# Altium integrated library Micron Memory Parallel NOR Flash.IntLib: 720 symbols (part 149 of 216)
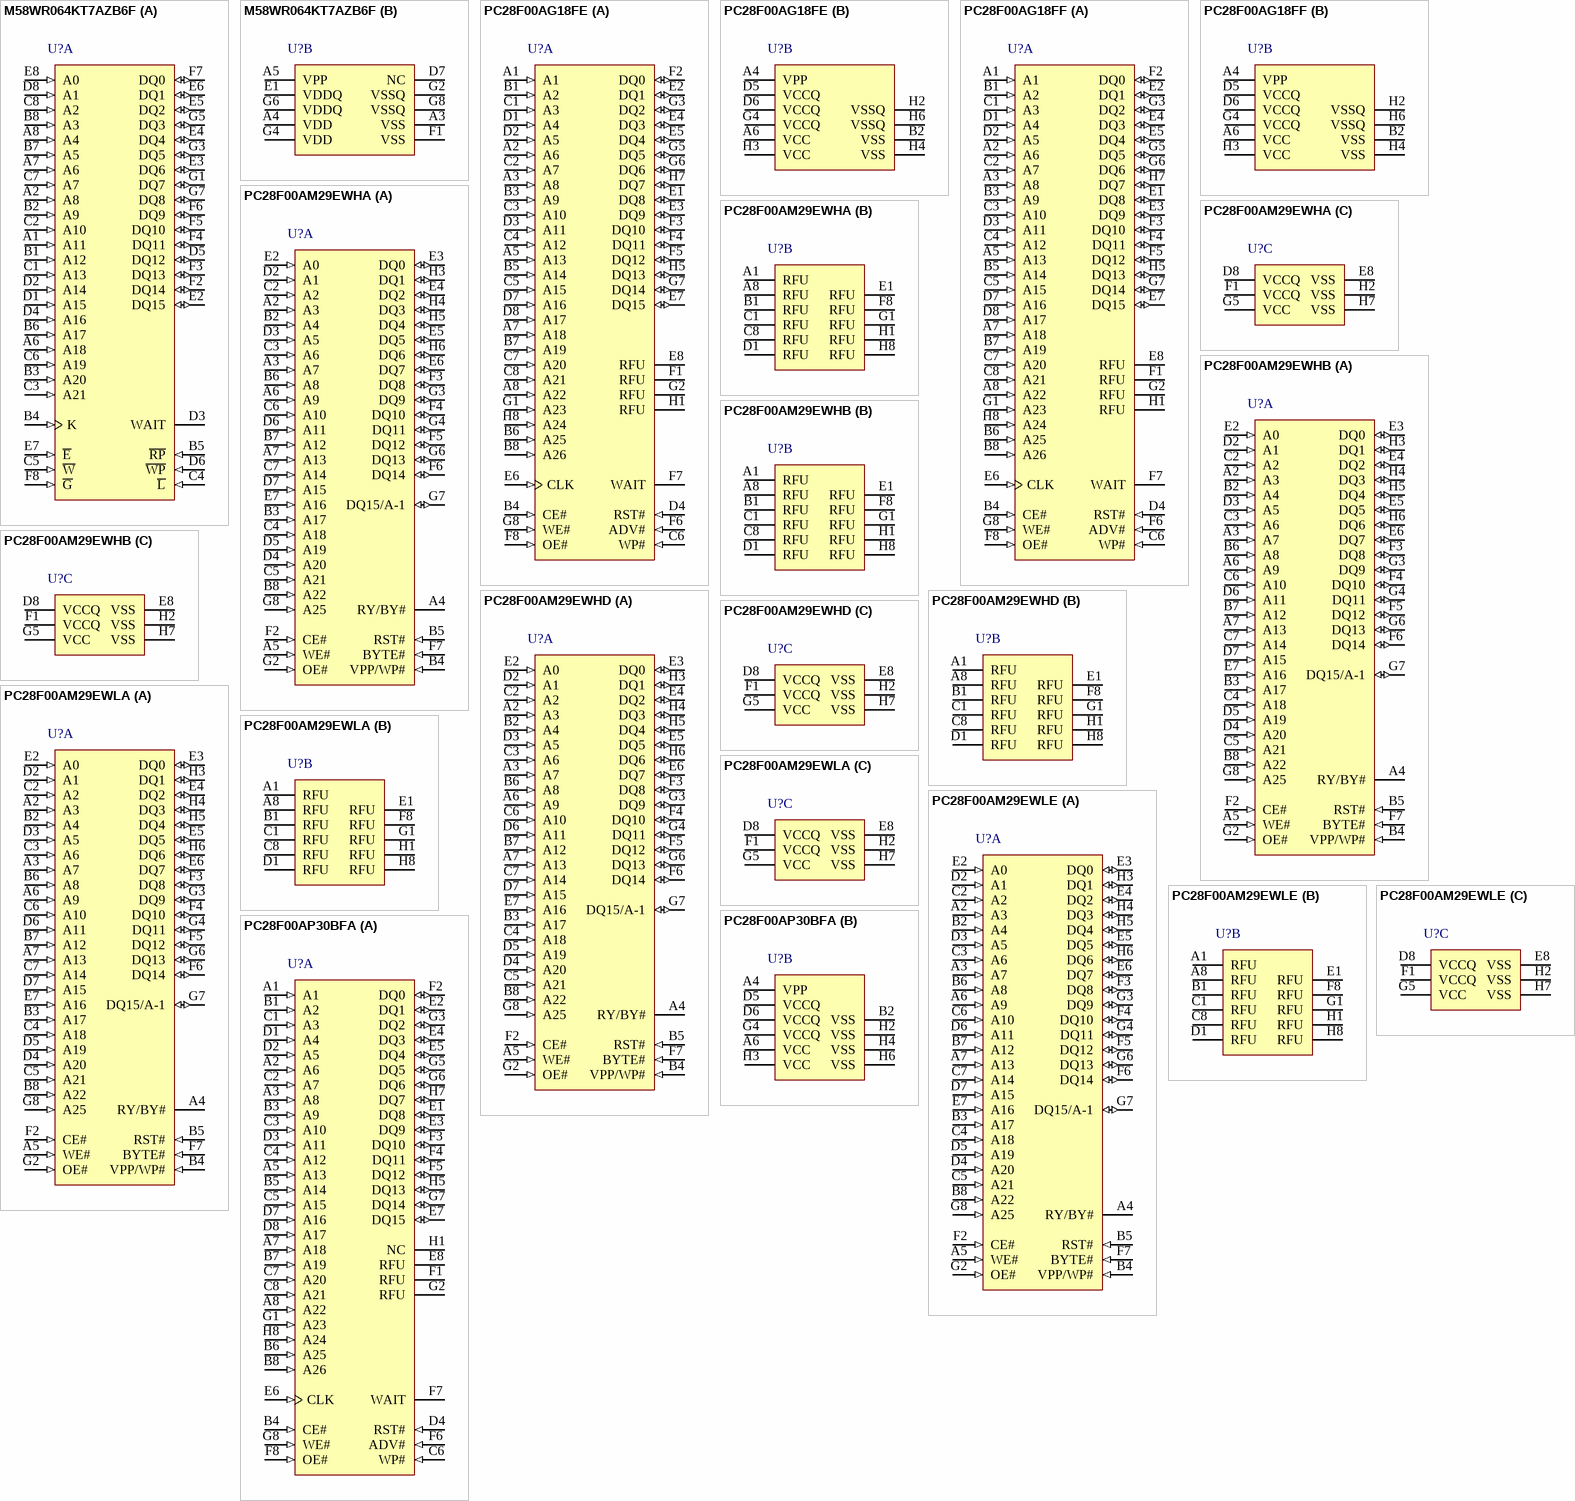
[diagram p185: symbols M58WR064KT7AZB6F to PC28F00AP30BFA]

## M58WR064KT7AZB6F
designator U?
64 Mb (x16) Automotive Parallel NOR Flash Memory, 70 ns, 1.7 to 2.0 V, 56-ball VFBGA (ZB), Tape & Reel; Part Family: M58WR; Manufacturer: Micron; PartNumber: M58WR064KT7AZB6F; Density: 64Mb; Op Temp: -40C to +85C; Speed: 70ns; Voltage: 1.7V-2.0V; DatasheetVersion: Rev. 6; PackageVersion: Rev 18; PackageReference: MICT-ZA-80; PackageDescription: 80-Ball LBGA, 12 X 10 mm, Pitch 1 mm; RoHS: Yes; Width: x16; Mounting Technology: Surface Mount; ComponentLink1Description: Manufacturer URL; ComponentLink1URL: http://www.micron.com/; ComponentLink2Description: Datasheet; ComponentLink2URL: http://www.micron.com/~/media/Documents/Products/Data%20Sheet/NOR%20Flash/Parallel/P30/306666_P30_130nm_Discrete_DS.pdf; ComponentLink3Description: Package Specification; ComponentLink3URL: http://www.micron.com/~/media/Documents/Products/Data%20Sheet/NOR%20Flash/Parallel/P30/306666_P30_130nm_Discrete_DS.pdf
footprint MICT-ZA-80 (BGA, 80-Balls, Body 12x10mm, Pitch 1mm)
part A pins: A1 A11 (in) "Address Input (A0-Amax) Amax is the highest order address input. It is equal to A19 in the M58WR016KT/B, to A20 in the M58WR032KT/B and, to A21 in the M58WR064KT/B. The Address Input select the cells in the memory array to (See Datasheet)", A2 A8 (in) "Address Input (A0-Amax) Amax is the highest order address input. It is equal to A19 in the M58WR016KT/B, to A20 in the M58WR032KT/B and, to A21 in the M58WR064KT/B. The Address Input select the cells in the memory array to (See Datasheet)", A6 A18 (in) "Address Input (A0-Amax) Amax is the highest order address input. It is equal to A19 in the M58WR016KT/B, to A20 in the M58WR032KT/B and, to A21 in the M58WR064KT/B. The Address Input select the cells in the memory array to (See Datasheet)", A7 A6 (in) "Address Input (A0-Amax) Amax is the highest order address input. It is equal to A19 in the M58WR016KT/B, to A20 in the M58WR032KT/B and, to A21 in the M58WR064KT/B. The Address Input select the cells in the memory array to (See Datasheet)", A8 A4 (in) "Address Input (A0-Amax) Amax is the highest order address input. It is equal to A19 in the M58WR016KT/B, to A20 in the M58WR032KT/B and, to A21 in the M58WR064KT/B. The Address Input select the cells in the memory array to (See Datasheet)", B1 A12 (in) "Address Input (A0-Amax) Amax is the highest order address input. It is equal to A19 in the M58WR016KT/B, to A20 in the M58WR032KT/B and, to A21 in the M58WR064KT/B. The Address Input select the cells in the memory array to (See Datasheet)", B2 A9 (in) "Address Input (A0-Amax) Amax is the highest order address input. It is equal to A19 in the M58WR016KT/B, to A20 in the M58WR032KT/B and, to A21 in the M58WR064KT/B. The Address Input select the cells in the memory array to (See Datasheet)", B3 A20 (in) "Address Input (A0-Amax) Amax is the highest order address input. It is equal to A19 in the M58WR016KT/B, to A20 in the M58WR032KT/B and, to A21 in the M58WR064KT/B. The Address Input select the cells in the memory array to (See Datasheet)", B4 K (in) "Clock (K) The clock input synchronizes the memory to the microcontroller during synchronous read operations; the address is latched on a Clock edge (rising or falling, according to the configuration settings) when Latch (See Datasheet)", B5 ~{RP} (in) "Reset (R\P\) The Reset input provides a hardware reset of the memory. When Reset is at VIL, the memory is in reset mode: the outputs are high impedance and the current consumption is reduced to the reset supply current IDD2. (See Datasheet)", B6 A17 (in) "Address Input (A0-Amax) Amax is the highest order address input. It is equal to A19 in the M58WR016KT/B, to A20 in the M58WR032KT/B and, to A21 in the M58WR064KT/B. The Address Input select the cells in the memory array to (See Datasheet)", B7 A5 (in) "Address Input (A0-Amax) Amax is the highest order address input. It is equal to A19 in the M58WR016KT/B, to A20 in the M58WR032KT/B and, to A21 in the M58WR064KT/B. The Address Input select the cells in the memory array to (See Datasheet)", B8 A3 (in) "Address Input (A0-Amax) Amax is the highest order address input. It is equal to A19 in the M58WR016KT/B, to A20 in the M58WR032KT/B and, to A21 in the M58WR064KT/B. The Address Input select the cells in the memory array to (See Datasheet)", C1 A13 (in) "Address Input (A0-Amax) Amax is the highest order address input. It is equal to A19 in the M58WR016KT/B, to A20 in the M58WR032KT/B and, to A21 in the M58WR064KT/B. The Address Input select the cells in the memory array to (See Datasheet)", C2 A10 (in) "Address Input (A0-Amax) Amax is the highest order address input. It is equal to A19 in the M58WR016KT/B, to A20 in the M58WR032KT/B and, to A21 in the M58WR064KT/B. The Address Input select the cells in the memory array to (See Datasheet)", C3 A21 (in) "Address Input (A0-Amax) Amax is the highest order address input. It is equal to A19 in the M58WR016KT/B, to A20 in the M58WR032KT/B and, to A21 in the M58WR064KT/B. The Address Input select the cells in the memory array to (See Datasheet)", C4 ~{L} (in) "Latch Enable (L\) Latch Enable latches the address bits on its rising edge. The address latch is transparent when Latch Enable is at VIL and it is inhibited when Latch Enable is at VIH. Latch Enable can be kept Low (also at (See Datasheet)", C5 ~{W} (in) "Write Enable (W\) The Write Enable input controls the bus write operation of the memory’s command interface. The data and address inputs are latched on the rising edge of Chip Enable or Write Enable, whichever occurs first.", C6 A19 (in) "Address Input (A0-Amax) Amax is the highest order address input. It is equal to A19 in the M58WR016KT/B, to A20 in the M58WR032KT/B and, to A21 in the M58WR064KT/B. The Address Input select the cells in the memory array to (See Datasheet)", C7 A7 (in) "Address Input (A0-Amax) Amax is the highest order address input. It is equal to A19 in the M58WR016KT/B, to A20 in the M58WR032KT/B and, to A21 in the M58WR064KT/B. The Address Input select the cells in the memory array to (See Datasheet)", C8 A2 (in) "Address Input (A0-Amax) Amax is the highest order address input. It is equal to A19 in the M58WR016KT/B, to A20 in the M58WR032KT/B and, to A21 in the M58WR064KT/B. The Address Input select the cells in the memory array to (See Datasheet)", D1 A15 (in) "Address Input (A0-Amax) Amax is the highest order address input. It is equal to A19 in the M58WR016KT/B, to A20 in the M58WR032KT/B and, to A21 in the M58WR064KT/B. The Address Input select the cells in the memory array to (See Datasheet)", D2 A14 (in) "Address Input (A0-Amax) Amax is the highest order address input. It is equal to A19 in the M58WR016KT/B, to A20 in the M58WR032KT/B and, to A21 in the M58WR064KT/B. The Address Input select the cells in the memory array to (See Datasheet)", D3 WAIT (hiz) "Wait (WAIT) Wait is an output signal used during synchronous read to indicate whether the data on the output bus are valid. This output is high impedance when Chip Enable is at VIH or Reset is at VIL. It can be configured to (See Datasheet)", D4 A16 (in) "Address Input (A0-Amax) Amax is the highest order address input. It is equal to A19 in the M58WR016KT/B, to A20 in the M58WR032KT/B and, to A21 in the M58WR064KT/B. The Address Input select the cells in the memory array to (See Datasheet)", D5 DQ12 (io) "Data inputs/outputs (DQ0-DQ15) The data I/O output the data stored at the selected address during a bus read operation or input a command or the data to be programmed during a bus write operation.", D6 ~{WP} (in) "Write Protect (W\P\) Write Protect is an input that provides additional hardware protection for each block. When Write Protect is at VIL, the lock-down is enabled and the protection status of the lockeddown blocks cannot be (See Datasheet)", D8 A1 (in) "Address Input (A0-Amax) Amax is the highest order Address Input. It is equal to A19 in the M58WR016KT/B, to A20 in the M58WR032KT/B and, to A21 in the M58WR064KT/B. The Address Input select the cells in the memory array to (See Datasheet)", E2 DQ15 (io) "Data input/output (DQ0-DQ15) The data I/O output the data stored at the selected address during a bus read operation or input a command or the data to be programmed during a bus write operation.", E3 DQ6 (io) "Data input/output (DQ0-DQ15) The data I/O output the data stored at the selected address during a bus read operation or input a command or the data to be programmed during a bus write operation.", E4 DQ4 (io) "Data INPUT/OUTPUT (DQ0-DQ15) The data I/O OUTPUT the data stored at the selected address during a bus read operation or input a command or the data to be programmed during a bus write operation.", E5 DQ2 (io) "Data input/Output (DQ0-DQ15) The data I/O output the data stored at the selected address during a bus read operation or input a command or the data to be programmed during a bus write operation.", E6 DQ1 (io) "Data inputs/Output (DQ0-DQ15) The data I/O output the data stored at the selected address during a bus read operation or input a command or the data to be programmed during a bus write operation.", E7 ~{E} (in) "Chip Enable (E\) The Chip Enable input activates the memory control logic, input buffers, decoders and sense amplifiers. When Chip Enable is at VILand Reset is at VIH the device is in active mode. When Chip Enable is at VIH (See Datasheet)", E8 A0 (in) "Address Input (A0-Amax) Amax is the highest order address input. It is equal to A19 in the M58WR016KT/B, to A20 in the M58WR032KT/B and, to A21 in the M58WR064KT/B. The Address Input select the cells in the memory array to (See Datasheet)", F2 DQ14 (io) "Data input/output (DQ0-DQ15) The data I/O output the data stored at the selected address during a bus read operation or input a command or the data to be programmed during a bus write operation.", F3 DQ13 (io) "Data input/output (DQ0-DQ15) The data I/O output the data stored at the selected address during a bus read operation or input a command or the data to be programmed during a bus write operation.", F4 DQ11 (io) "Data inputs/outputs (DQ0-DQ15) The data I/O output the data stored at the selected address during a bus read operation or input a command or the data to be programmed during a bus write operation.", F5 DQ10 (io) "Data inputs/outputs (DQ0-DQ15) The data I/O output the data stored at the selected address during a bus read operation or input a command or the data to be programmed during a bus write operation.", F6 DQ9 (io) "Data input/output (DQ0-DQ15) The data I/O output the data stored at the selected address during a bus read operation or input a command or the data to be programmed during a bus write operation.", F7 DQ0 (io) "Data Input/Output (DQ0-DQ15) The data I/O output the data stored at the selected address during a bus read operation or input a command or the data to be programmed during a bus write operation.", F8 ~{G} (in) "Output Enable (G\) The Output Enable input controls data outputs during the bus read operation of the memory.", G1 DQ7 (io) "Data inputs/outputs (DQ0-DQ15) The data I/O output the data stored at the selected address during a bus read operation or input a command or the data to be programmed during a bus write operation.", G3 DQ5 (io) "Data inputs/outputs (DQ0-DQ15) The data I/O output the data stored at the selected address during a bus read operation or input a command or the data to be programmed during a bus write operation.", G5 DQ3 (io) "Data input/outputs (DQ0-DQ15) The data I/O output the data stored at the selected address during a bus read operation or input a command or the data to be programmed during a bus write operation.", G7 DQ8 (io) "Data input/output (DQ0-DQ15) The data I/O output the data stored at the selected address during a bus read operation or input a command or the data to be programmed during a bus write operation."
part B pins: A3 VSS (power) "VSS ground:VSS ground is the reference for the core supply, and must be connected to the system ground.", A4 VDD (power) "VDD supply voltage VDD provides the power supply to the internal core of the memory device. It is the main power supply for all operations (read, program and erase).", A5 VPP (power) "VPP program supply voltage VPP is both a control input and a power supply pin. The two functions are selected by the voltage range applied to the pin. If VPP is kept in a low voltage range (0 V to VDDQ) VPP is seen as a (See Datasheet)", D7 NC "Not connected internally", E1 VDDQ (power) "VDDQ provides the power supply to the I/O pins and enables all outputs to be powered independently of VDD. VDDQ can be tied to VDD or can use a separate supply.", F1 VSS (power) "VSS ground:VSS ground is the reference for the core supply, and must be connected to the system ground.", G2 VSSQ (power) "VSSQ ground:VSSQ ground is the reference for the input/output circuitry driven by VDDQ. VSSQ must be connected to VSS", G4 VDD (power) "VDD supply voltage VDD provides the power supply to the internal core of the memory device. It is the main power supply for all operations (read, program and erase).", G6 VDDQ (power) "VDDQ supply voltage VDDQ provides the power supply to the I/O pins and enables all outputs to be powered independently of VDD. VDDQ can be tied to VDD or can use a separate supply.", G8 VSSQ (power) "VSSQ ground:VSSQ ground is the reference for the input/output circuitry driven by VDDQ. VSSQ must be connected to VSS"

## PC28F00AG18FE
designator U?
1 Gb (x16) Parallel NOR Flash Memory, 96 ns, 1.7 to 2.0 V, 64-ball Easy BGA (PC), Tray; Part Family: G18; Manufacturer: Micron; PartNumber: PC28F00AG18FE; Density: 1Gb; Op Temp: -40C to +85C; Speed: 96ns; Voltage: 1.7V-2.0V; DatasheetVersion: Rev. F; PackageVersion: Rev. 5; PackageReference: MICT-PC-64-8000X10000X1200DEA; PackageDescription: 64-Ball BGA, 8 x 10 mm, Pitch 1 mm; RoHS: Yes; Width: x16; Mounting Technology: Surface Mount; ComponentLink1Description: Manufacturer URL; ComponentLink1URL: http://www.micron.com/; ComponentLink2Description: Datasheet; ComponentLink2URL: http://www.micron.com/~/media/Documents/Products/Data%20Sheet/NOR%20Flash/Parallel/G18/128_256_512_1Gb_65nm_g18.pdf; ComponentLink3Description: Package Specification; ComponentLink3URL: http://www.micron.com/~/media/Documents/Products/Data%20Sheet/NOR%20Flash/Parallel/P33/314749_P33_130nm_Discrete_DS.pdf
footprint MICT-PC-64-8000X10000X1200DEA (BGA, 64-Balls, Body 10x8mm, Pitch 1mm)
part A pins: A1 (in) "Address Input: Address Input for all READ/WRITE cycles.", A2 A6 (in) "Address Input: Address Input for all READ/WRITE cycles.", A3 A8 (in) "Address Input: Address Input for all READ/WRITE cycles.", A5 A13 (in) "Address Input: Address Input for all READ/WRITE cycles.", A7 A18 (in) "Address Input: Address Input for all READ/WRITE cycles.", A8 A22 (in) "Address Input: Address Input for all READ/WRITE cycles.", B1 A2 (in) "Address Input: Address Input for all READ/WRITE cycles.", B3 A9 (in) "Address Input: Address Input for all READ/WRITE cycles.", B4 CE# (in) "Chip enable: LOW true input. When LOW, CE# selects the die; when HIGH, CE# deselects the die and places it in standby.", B5 A14 (in) "Address Input: Address Input for all READ/WRITE cycles.", B6 A25 (in) "Address Input: Address Input for all READ/WRITE cycles.", B7 A19 (in) "Address Input: Address Input for all READ/WRITE cycles.", B8 A26 (in) "Address Input: Address Input for all READ/WRITE cycles.", C1 A3 (in) "Address Input: Address Input for all READ/WRITE cycles.", C2 A7 (in) "Address Input: Address Input for all READ/WRITE cycles.", C3 A10 (in) "Address Input: Address Input for all READ/WRITE cycles.", C4 A12 (in) "Address Input: Address Input for all READ/WRITE cycles.", C5 A15 (in) "Address Input: Address Input for all READ/WRITE cycles.", C6 WP# (in) "Write protect: LOW true input. When LOW, WP# enables block lock down; when HIGH, WP# disables block lock down.", C7 A20 (in) "Address Input: Address Input for all READ/WRITE cycles.", C8 A21 (in) "Address Input: Address Input for all READ/WRITE cycles.", D1 A4 (in) "Address Input: Address Input for all READ/WRITE cycles.", D2 A5 (in) "Address Input: Address Input for all READ/WRITE cycles.", D3 A11 (in) "Address Input: Address Input for all READ/WRITE cycles.", D4 RST# (in) "Reset: LOW true input. When LOW, RST# inhibits all operations; must be HIGH for normal operations.", D7 A16 (in) "Address Input: Address Input for all READ/WRITE cycles.", D8 A17 (in) "Address Input: Address Input for all READ/WRITE cycles.", E1 DQ8 (io) "Data: Data or command inputs during WRITE cycles; data, status, or device information outputs during READ cycles.", E2 DQ1 (io) "Data: Data or command inputs during WRITE cycles; data, status, or device information Output during READ cycles.", E3 DQ9 (io) "Data: Data or command inputs during WRITE cycles; data, status, or device information outputs during READ cycles.", E4 DQ3 (io) "Data: Data or command input during WRITE cycles; data, status, or device information outputs during READ cycles.", E5 DQ4 (io) "Data: Data or command INPUT during WRITE cycles; data, status, or device information OUTPUT during READ cycles.", E6 CLK (in) "Clock: Synchronizes burst READ operations with the host controller", E7 DQ15 (io) "Data: Data or command inputs during WRITE cycles; data, status, or device information outputs during READ cycles.", E8 RFU "Reserve for future use :it is a no connect", F1 RFU "Reserve for future use :it is a no connect", F2 DQ0 (io) "Data: Data or command Input during WRITE cycles; data, status, or device information Output during READ cycles.", F3 DQ10 (io) "Data: Data or command inputs during WRITE cycles; data, status, or device information outputs during READ cycles.", F4 DQ11 (io) "Data: Data or command inputs during WRITE cycles; data, status, or device information outputs during READ cycles.", F5 DQ12 (io) "Data: Data or command inputs during WRITE cycles; data, status, or device information outputs during READ cycles.", F6 ADV# (in) "Address valid: LOW true input. When LOW, ADV# enables address inputs. For synchronous burst READs, address inputs are latched on the rising edge.", F7 WAIT (hiz) "WAIT: Configurable HIGH or LOW true output. When asserted, WAIT indicates DQ[15:0] is invalid; when de-asserted, WAIT indicates DQ[15:0] is valid.", F8 OE# (in) "Output enable: LOW true input. Must be LOW for READs and HIGH for WRITEs.", G1 A23 (in) "Address Input: Address Input for all READ/WRITE cycles.", G2 RFU "Reserve for future use :it is a no connect", G3 DQ2 (io) "Data: Data or command input during WRITE cycles; data, status, or device information Output during READ cycles.", G5 DQ5 (io) "Data: Data or command inputs during WRITE cycles; data, status, or device information outputs during READ cycles.", G6 DQ6 (io) "Data: Data or command inputs during WRITE cycles; data, status, or device information outputs during READ cycles.", G7 DQ14 (io) "Data: Data or command inputs during WRITE cycles; data, status, or device information outputs during READ cycles.", G8 WE# (in) "Write enable: LOW true input. Must be LOW for WRITEs and HIGH for READs.", H1 RFU "Reserve for future use :it is a no connect", H5 DQ13 (io) "Data: Data or command inputs during WRITE cycles; data, status, or device information outputs during READ cycles.", H7 DQ7 (io) "Data: Data or command inputs during WRITE cycles; data, status, or device information outputs during READ cycles.", H8 A24 (in) "Address Input: Address Input for all READ/WRITE cycles."
part B pins: A4 VPP (power) "Erase/program voltage: Enables voltage for PROGRAM and ERASE operations. Array contents cannot be altered when VPP is at or below VPPLK.", A6 VCC (power) "Core power: Supply voltage for core circuits. All operations are inhibited when VCC is at or below VLKO.", B2 VSS (power) "Logic ground: Core logic ground return. Connect all VSS balls to system ground; do not float any VSS balls.", D5 VCCQ (power) "I/O power: Supply voltage for all I/O drivers. All operations are inhibited when VCCQ is at or below VLKOQ.", D6 VCCQ (power) "I/O power: Supply voltage for all I/O drivers. All operations are inhibited when VCCQ is at or below VLKOQ.", G4 VCCQ (power) "I/O power: Supply voltage for all I/O drivers. All operations are inhibited when VCCQ is at or below VLKOQ.", H2 VSSQ (power) "I/O ground: I/O driver ground return. Connect all VSSQ balls to system ground; do not float any VSSQ balls.", H3 VCC (power) "Core power: Supply voltage for core circuits. All operations are inhibited when VCC is at or below VLKO.", H4 VSS (power) "Logic ground: Core logic ground return. Connect all VSS balls to system ground; do not float any VSS balls.", H6 VSSQ (power) "I/O ground: I/O driver ground return. Connect all VSSQ balls to system ground; do not float any VSSQ balls."

## PC28F00AG18FF
designator U?
1 Gb (x16) Parallel NOR Flash Memory, 96 ns, 1.7 to 2.0 V, 64-ball Easy BGA (PC), Tape & Reel; Part Family: G18; Manufacturer: Micron; PartNumber: PC28F00AG18FF; Density: 1Gb; Op Temp: -40C to +85C; Speed: 96ns; Voltage: 1.7V-2.0V; DatasheetVersion: Rev. F; PackageVersion: Rev. 5; PackageReference: MICT-PC-64-8000X10000X1200DEA; PackageDescription: 64-Ball BGA, 8 x 10 mm, Pitch 1 mm; RoHS: Yes; Width: x16; Mounting Technology: Surface Mount; ComponentLink1Description: Manufacturer URL; ComponentLink1URL: http://www.micron.com/; ComponentLink2Description: Datasheet; ComponentLink2URL: http://www.micron.com/~/media/Documents/Products/Data%20Sheet/NOR%20Flash/Parallel/G18/128_256_512_1Gb_65nm_g18.pdf; ComponentLink3Description: Package Specification; ComponentLink3URL: http://www.micron.com/~/media/Documents/Products/Data%20Sheet/NOR%20Flash/Parallel/P33/314749_P33_130nm_Discrete_DS.pdf
footprint MICT-PC-64-8000X10000X1200DEA (BGA, 64-Balls, Body 10x8mm, Pitch 1mm)
part A pins: A1 (in) "Address Input: Address Input for all READ/WRITE cycles.", A2 A6 (in) "Address Input: Address Input for all READ/WRITE cycles.", A3 A8 (in) "Address Input: Address Input for all READ/WRITE cycles.", A5 A13 (in) "Address Input: Address Input for all READ/WRITE cycles.", A7 A18 (in) "Address Input: Address Input for all READ/WRITE cycles.", A8 A22 (in) "Address Input: Address Input for all READ/WRITE cycles.", B1 A2 (in) "Address Input: Address Input for all READ/WRITE cycles.", B3 A9 (in) "Address Input: Address Input for all READ/WRITE cycles.", B4 CE# (in) "Chip enable: LOW true input. When LOW, CE# selects the die; when HIGH, CE# deselects the die and places it in standby.", B5 A14 (in) "Address Input: Address Input for all READ/WRITE cycles.", B6 A25 (in) "Address Input: Address Input for all READ/WRITE cycles.", B7 A19 (in) "Address Input: Address Input for all READ/WRITE cycles.", B8 A26 (in) "Address Input: Address Input for all READ/WRITE cycles.", C1 A3 (in) "Address Input: Address Input for all READ/WRITE cycles.", C2 A7 (in) "Address Input: Address Input for all READ/WRITE cycles.", C3 A10 (in) "Address Input: Address Input for all READ/WRITE cycles.", C4 A12 (in) "Address Input: Address Input for all READ/WRITE cycles.", C5 A15 (in) "Address Input: Address Input for all READ/WRITE cycles.", C6 WP# (in) "Write protect: LOW true input. When LOW, WP# enables block lock down; when HIGH, WP# disables block lock down.", C7 A20 (in) "Address Input: Address Input for all READ/WRITE cycles.", C8 A21 (in) "Address Input: Address Input for all READ/WRITE cycles.", D1 A4 (in) "Address Input: Address Input for all READ/WRITE cycles.", D2 A5 (in) "Address Input: Address Input for all READ/WRITE cycles.", D3 A11 (in) "Address Input: Address Input for all READ/WRITE cycles.", D4 RST# (in) "Reset: LOW true input. When LOW, RST# inhibits all operations; must be HIGH for normal operations.", D7 A16 (in) "Address Input: Address Input for all READ/WRITE cycles.", D8 A17 (in) "Address Input: Address Input for all READ/WRITE cycles.", E1 DQ8 (io) "Data: Data or command inputs during WRITE cycles; data, status, or device information outputs during READ cycles.", E2 DQ1 (io) "Data: Data or command inputs during WRITE cycles; data, status, or device information Output during READ cycles.", E3 DQ9 (io) "Data: Data or command inputs during WRITE cycles; data, status, or device information outputs during READ cycles.", E4 DQ3 (io) "Data: Data or command input during WRITE cycles; data, status, or device information outputs during READ cycles.", E5 DQ4 (io) "Data: Data or command INPUT during WRITE cycles; data, status, or device information OUTPUT during READ cycles.", E6 CLK (in) "Clock: Synchronizes burst READ operations with the host controller", E7 DQ15 (io) "Data: Data or command inputs during WRITE cycles; data, status, or device information outputs during READ cycles.", E8 RFU "Reserve for future use :it is a no connect", F1 RFU "Reserve for future use :it is a no connect", F2 DQ0 (io) "Data: Data or command Input during WRITE cycles; data, status, or device information Output during READ cycles.", F3 DQ10 (io) "Data: Data or command inputs during WRITE cycles; data, status, or device information outputs during READ cycles.", F4 DQ11 (io) "Data: Data or command inputs during WRITE cycles; data, status, or device information outputs during READ cycles.", F5 DQ12 (io) "Data: Data or command inputs during WRITE cycles; data, status, or device information outputs during READ cycles.", F6 ADV# (in) "Address valid: LOW true input. When LOW, ADV# enables address inputs. For synchronous burst READs, address inputs are latched on the rising edge.", F7 WAIT (hiz) "WAIT: Configurable HIGH or LOW true output. When asserted, WAIT indicates DQ[15:0] is invalid; when de-asserted, WAIT indicates DQ[15:0] is valid.", F8 OE# (in) "Output enable: LOW true input. Must be LOW for READs and HIGH for WRITEs.", G1 A23 (in) "Address Input: Address Input for all READ/WRITE cycles.", G2 RFU "Reserve for future use :it is a no connect", G3 DQ2 (io) "Data: Data or command input during WRITE cycles; data, status, or device information Output during READ cycles.", G5 DQ5 (io) "Data: Data or command inputs during WRITE cycles; data, status, or device information outputs during READ cycles.", G6 DQ6 (io) "Data: Data or command inputs during WRITE cycles; data, status, or device information outputs during READ cycles.", G7 DQ14 (io) "Data: Data or command inputs during WRITE cycles; data, status, or device information outputs during READ cycles.", G8 WE# (in) "Write enable: LOW true input. Must be LOW for WRITEs and HIGH for READs.", H1 RFU "Reserve for future use :it is a no connect", H5 DQ13 (io) "Data: Data or command inputs during WRITE cycles; data, status, or device information outputs during READ cycles.", H7 DQ7 (io) "Data: Data or command inputs during WRITE cycles; data, status, or device information outputs during READ cycles.", H8 A24 (in) "Address Input: Address Input for all READ/WRITE cycles."
part B pins: A4 VPP (power) "Erase/program voltage: Enables voltage for PROGRAM and ERASE operations. Array contents cannot be altered when VPP is at or below VPPLK.", A6 VCC (power) "Core power: Supply voltage for core circuits. All operations are inhibited when VCC is at or below VLKO.", B2 VSS (power) "Logic ground: Core logic ground return. Connect all VSS balls to system ground; do not float any VSS balls.", D5 VCCQ (power) "I/O power: Supply voltage for all I/O drivers. All operations are inhibited when VCCQ is at or below VLKOQ.", D6 VCCQ (power) "I/O power: Supply voltage for all I/O drivers. All operations are inhibited when VCCQ is at or below VLKOQ.", G4 VCCQ (power) "I/O power: Supply voltage for all I/O drivers. All operations are inhibited when VCCQ is at or below VLKOQ.", H2 VSSQ (power) "I/O ground: I/O driver ground return. Connect all VSSQ balls to system ground; do not float any VSSQ balls.", H3 VCC (power) "Core power: Supply voltage for core circuits. All operations are inhibited when VCC is at or below VLKO.", H4 VSS (power) "Logic ground: Core logic ground return. Connect all VSS balls to system ground; do not float any VSS balls.", H6 VSSQ (power) "I/O ground: I/O driver ground return. Connect all VSSQ balls to system ground; do not float any VSSQ balls."

## PC28F00AM29EWHA
designator U?
1 Gb (x8/x16) Parallel NOR Flash Memory, 100 ns, 2.7 to 3.6 V, 64-ball FBGA (PC), Tray; Part Family: M29EW; Manufacturer: Micron; PartNumber: PC28F00AM29EWHA; Density: 1Gb; Op Temp: -40C to +85C; Speed: 100ns; Voltage: 2.7V-3.6V; DatasheetVersion: Rev. B; PackageVersion: Rev. B; PackageReference: MICT-PC-64-13000X11000X1400DEA; PackageDescription: 64-Ball BGA, 13 x 11 mm, Pitch 1 mm; RoHS: Yes; Width: x8/x16; Mounting Technology: Surface Mount; ComponentLink1Description: Manufacturer URL; ComponentLink1URL: http://www.micron.com/; ComponentLink2Description: Datasheet; ComponentLink2URL: http://www.micron.com/~/media/Documents/Products/Data%20Sheet/NOR%20Flash/Parallel/M29EW/m29ew_256mb_2gb.pdf; ComponentLink3Description: Package Specification; ComponentLink3URL: http://www.micron.com/~/media/Documents/Products/Data%20Sheet/NOR%20Flash/Parallel/M29EW/m29ew_256mb_2gb.pdf
footprint MICT-PC-64-13000X11000X1400DEA (BGA, 64-Balls, Body 13x11mm, Pitch 1mm)
part A pins: A2 A3 (in) "Address: Selects the cells in the array to access during READ operations. During WRITE operations, they control the commands sent to the command interface of the program/erase controller.", A3 A7 (in) "Address: Selects the cells in the array to access during READ operations. During WRITE operations, they control the commands sent to the command interface of the program/erase controller.", A4 RY/BY# (hiz) "Ready busy: Open-drain output that can be used to identify when the device is performing a PROGRAM or ERASE operation. During PROGRAM or ERASE operations, RY/BY# is LOW, and is High-Z during read mode, auto select mode, and (See Datasheet)", A5 WE# (in) "Write enable: Controls the bus WRITE operation of the command interface.", A6 A9 (in) "Address: Selects the cells in the array to access during READ operations. During WRITE operations, they control the commands sent to the command interface of the program/erase controller.", A7 A13 (in) "Address: Selects the cells in the array to access during READ operations. During WRITE operations, they control the commands sent to the command interface of the program/erase controller.", B2 A4 (in) "Address: Selects the cells in the array to access during READ operations. During WRITE operations, they control the commands sent to the command interface of the program/erase controller.", B3 A17 (in) "Address: Selects the cells in the array to access during READ operations. During WRITE operations, they control the commands sent to the command interface of the program/erase controller.", B4 VPP/WP# (in) "VPP/Write Protect: Provides WRITE PROTECT function and VPPH function. These functions protect the lowest or highest block and enable the device to enter unlock bypass mode, respectively. (Refer to Hardware Protection and (See Datasheet)", B5 RST# (in) "Reset: Applies a hardware reset to the device, which is achieved by holding RST# LOW for at least tPLPX. After RST# goes HIGH, the device is ready for READ and WRITE operations (after tPHEL or tRHEL, whichever occurs last). (See Datasheet)", B6 A8 (in) "Address: Selects the cells in the array to access during READ operations. During WRITE operations, they control the commands sent to the command interface of the program/erase controller.", B7 A12 (in) "Address: Selects the cells in the array to access during READ operations. During WRITE operations, they control the commands sent to the command interface of the program/erase controller.", B8 A22 (in) "Address: Selects the cells in the array to access during READ operations. During WRITE operations, they control the commands sent to the command interface of the program/erase controller.", C2 A2 (in) "Address: Selects the cells in the array to access during READ operations. During WRITE operations, they control the commands sent to the command interface of the program/erase controller.", C3 A6 (in) "Address: Selects the cells in the array to access during READ operations. During WRITE operations, they control the commands sent to the command interface of the program/erase controller.", C4 A18 (in) "Address: Selects the cells in the array to access during READ operations. During WRITE operations, they control the commands sent to the command interface of the program/erase controller.", C5 A21 (in) "Address: Selects the cells in the array to access during READ operations. During WRITE operations, they control the commands sent to the command interface of the program/erase controller.", C6 A10 (in) "Address: Selects the cells in the array to access during READ operations. During WRITE operations, they control the commands sent to the command interface of the program/erase controller.", C7 A14 (in) "Address: Selects the cells in the array to access during READ operations. During WRITE operations, they control the commands sent to the command interface of the program/erase controller.", D2 A1 (in) "Address: Selects the cells in the array to access during READ operations. During WRITE operations, they control the commands sent to the command interface of the program/erase controller.", D3 A5 (in) "Address: Selects the cells in the array to access during READ operations. During WRITE operations, they control the commands sent to the command interface of the program/erase controller.", D4 A20 (in) "Address: Selects the cells in the array to access during READ operations. During WRITE operations, they control the commands sent to the command interface of the program/erase controller.", D5 A19 (in) "Address: Selects the cells in the array to access during READ operations. During WRITE operations, they control the commands sent to the command interface of the program/erase controller.", D6 A11 (in) "Address: Selects the cells in the array to access during READ operations. During WRITE operations, they control the commands sent to the command interface of the program/erase controller.", D7 A15 (in) "Address: Selects the cells in the array to access during READ operations. During WRITE operations, they control the commands sent to the command interface of the program/erase controller.", E2 A0 (in) "Address: Selects the cells in the array to access during READ operations. During WRITE operations, they control the commands sent to the command interface of the program/erase controller.", E3 DQ0 (io) "Data I/O: Outputs the data stored at the selected address during a READ operation. During WRITE operations, they represent the commands sent to the command interface of the internal state machine.", E4 DQ2 (io) "Data I/O: Outputs the data stored at the selected address during a READ operation. During WRITE operations, they represent the commands sent to the command interface of the internal state machine.", E5 DQ5 (io) "Data I/O: Outputs the data stored at the selected address during a READ operation. During WRITE operations, they represent the commands sent to the command interface of the internal state machine.", E6 DQ7 (io) "Data I/O: Outputs the data stored at the selected address during a READ operation. During WRITE operations, they represent the commands sent to the command interface of the internal state machine.", E7 A16 (in) "Address: Selects the cells in the array to access during READ operations. During WRITE operations, they control the commands sent to the command interface of the program/erase controller.", F2 CE# (in) "Chip enable: Activates the device, enabling READ and WRITE operations to be performed. When CE# is HIGH, the device goes to standby and data outputs are at HIGH-Z.", F3 DQ8 (io) "Data I/O: Outputs the data stored at the selected address during a READ operation when BYTE# is HIGH. When BYTE# is LOW, these pins are not used and are High-Z. During WRITE operations, these bits are not used. When reading (See Datasheet)", F4 DQ10 (io) "Data I/O: Outputs the data stored at the selected address during a READ operation when BYTE# is HIGH. When BYTE# is LOW, these pins are not used and are High-Z. During WRITE operations, these bits are not used. When reading (See Datasheet)", F5 DQ12 (io) "Data I/O: Outputs the data stored at the selected address during a READ operation when BYTE# is HIGH. When BYTE# is LOW, these pins are not used and are High-Z. During WRITE operations, these bits are not used. When reading (See Datasheet)", F6 DQ14 (io) "Data I/O: Outputs the data stored at the selected address during a READ operation when BYTE# is HIGH. When BYTE# is LOW, these pins are not used and are High-Z. During WRITE operations, these bits are not used. When reading (See Datasheet)", F7 BYTE# (in) "Byte/word organization select: Switches between x8 and x16 bus modes. When BYTE# is LOW, the device is in x8 mode; when HIGH, the device is in x16 mode.", G2 OE# (in) "Output enable: Controls the bus READ operation.", G3 DQ9 (io) "Data I/O: Outputs the data stored at the selected address during a READ operation when BYTE# is HIGH. When BYTE# is LOW, these pins are not used and are High-Z. During WRITE operations, these bits are not used. When reading (See Datasheet)", G4 DQ11 (io) "Data I/O: Outputs the data stored at the selected address during a READ operation when BYTE# is HIGH. When BYTE# is LOW, these pins are not used and are High-Z. During WRITE operations, these bits are not used. When reading (See Datasheet)", G6 DQ13 (io) "Data I/O: Outputs the data stored at the selected address during a READ operation when BYTE# is HIGH. When BYTE# is LOW, these pins are not used and are High-Z. During WRITE operations, these bits are not used. When reading (See Datasheet)", G7 DQ15/A-1 (io) "Data I/O or address input: When the device operates in x16 bus mode, this pin behaves as data I/O, together with DQ[14:8]. When the device operates in x8 bus mode, this pin behaves as the least significant bit of the address.(See Datasheet)", G8 A25 (in) "Address: Selects the cells in the array to access during READ operations. During WRITE operations, they control the commands sent to the command interface of the program/erase controller.", H3 DQ1 (io) "Data I/O: Outputs the data stored at the selected address during a READ operation. During WRITE operations, they represent the commands sent to the command interface of the internal state machine.", H4 DQ3 (io) "Data I/O: Outputs the data stored at the selected address during a READ operation. During WRITE operations, they represent the commands sent to the command interface of the internal state machine.", H5 DQ4 (io) "Data I/O: Outputs the data stored at the selected address during a READ operation. During WRITE operations, they represent the commands sent to the command interface of the internal state machine.", H6 DQ6 (io) "Data I/O: Outputs the data stored at the selected address during a READ operation. During WRITE operations, they represent the commands sent to the command interface of the internal state machine."
part B pins: A1 RFU "Reserved for future use: RFUs should be not connected.", A8 RFU "Reserved for future use: RFUs should be not connected.", B1 RFU "Reserved for future use: RFUs should be not connected.", C1 RFU "Reserved for future use: RFUs should be not connected.", C8 RFU "Reserved for future use: RFUs should be not connected.", D1 RFU "Reserved for future use: RFUs should be not connected.", E1 RFU "Reserved for future use: RFUs should be not connected.", F8 RFU "Reserved for future use: RFUs should be not connected.", G1 RFU "Reserved for future use: RFUs should be not connected.", H1 RFU "Reserved for future use: RFUs should be not connected.", H8 RFU "Reserved for future use: RFUs should be not connected."
part C pins: D8 VCCQ (power) "I/O supply voltage: Provides the power supply to the I/O pins and enables all outputs to be powered independently from VCC.", E8 VSS (power) "Ground: All VSS pins must be connected to the system ground.", F1 VCCQ (power) "I/O supply voltage: Provides the power supply to the I/O pins and enables all outputs to be powered independently from VCC.", G5 VCC (power) "Supply voltage: Provides the power supply for READ, PROGRAM, and ERASE operations. The command interface is disabled when VCC <= VLKO. This prevents WRITE operations from accidentally damaging the data during power-up, (See Datasheet)", H2 VSS (power) "Ground: All VSS pins must be connected to the system ground.", H7 VSS (power) "Ground: All VSS pins must be connected to the system ground"